# Altium schematic symbol library EL-sense_Operational_Amplifiers.SchLib: 5 symbols
Pins are listed as number, name and electrical type; pins without a type are passive.

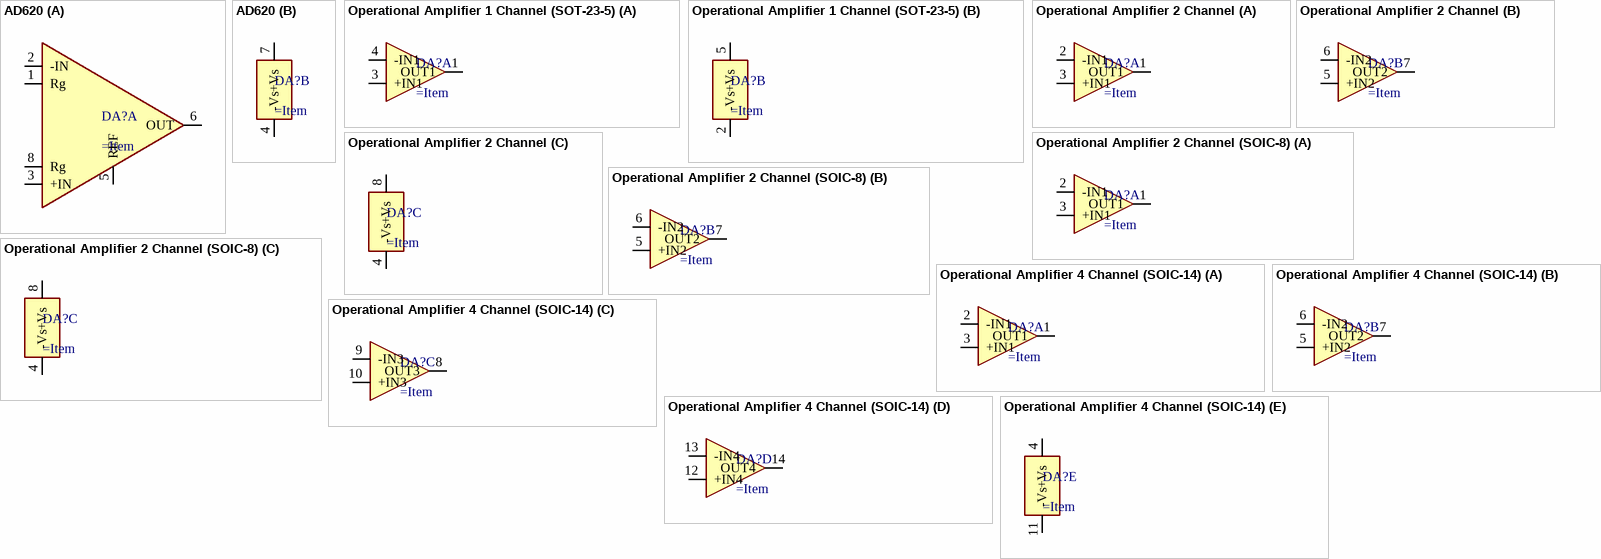
[diagram p0: symbols AD620 to Operational Amplifier 4 Channel (SOIC-14)]

## AD620
designator DA?
part A pins: 1 Rg, 2 -IN, 3 +IN, 5 REF, 6 OUT, 8 Rg
part B pins: 4 -Vs, 7 +Vs

## Operational Amplifier 1 Channel (SOT-23-5)
designator DA?
part A pins: 1 OUT1, 3 +IN1, 4 -IN1
part B pins: 2 -Vs, 5 +Vs

## Operational Amplifier 2 Channel
designator DA?
part A pins: 1 OUT1, 2 -IN1, 3 +IN1
part B pins: 5 +IN2, 6 -IN2, 7 OUT2
part C pins: 4 -Vs, 8 +Vs

## Operational Amplifier 2 Channel (SOIC-8)
designator DA?
part A pins: 1 OUT1, 2 -IN1, 3 +IN1
part B pins: 5 +IN2, 6 -IN2, 7 OUT2
part C pins: 4 -Vs, 8 +Vs

## Operational Amplifier 4 Channel (SOIC-14)
designator DA?
part A pins: 1 OUT1, 2 -IN1, 3 +IN1
part B pins: 5 +IN2, 6 -IN2, 7 OUT2
part C pins: 8 OUT3, 9 -IN3, 10 +IN3
part D pins: 12 +IN4, 13 -IN4, 14 OUT4
part E pins: 4 +Vs, 11 -Vs